# Altium schematic symbol library ELEC_SYSTEM_Noelan.SchLib: 9 symbols
Pins are listed as number, name and electrical type; pins without a type are passive.

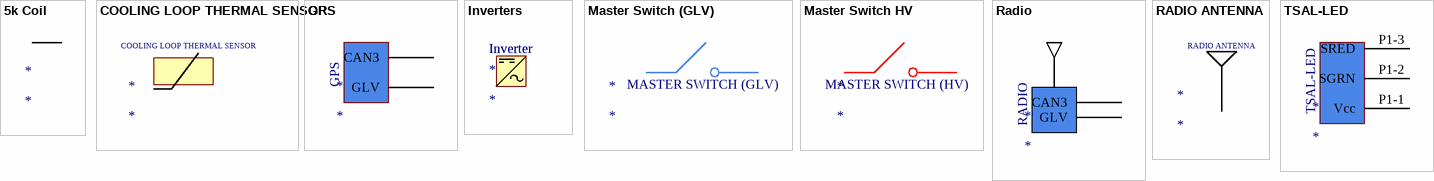
[diagram p0: symbols 5k Coil to TSAL-LED]

## 5k Coil
designator *

## COOLING LOOP THERMAL SENSOR
designator *

## GPS
designator *
pins: ?1 CAN3, ?2 GLV

## Inverters
designator *
text: Inverter

## Master Switch (GLV)
designator *
text: MASTER SWITCH (GLV)

## Master Switch HV
designator *
text: MASTER SWITCH (HV)

## Radio
designator *
pins: ?1 CAN3, ?2 GLV
text: RADIO

## RADIO ANTENNA
designator *

## TSAL-LED
designator *
pins: P1-1 Vcc, P1-2 SGRN, P1-3 SRED